# Altium schematic symbol library parts.SCHLIB: 122 symbols (part 2 of 2)
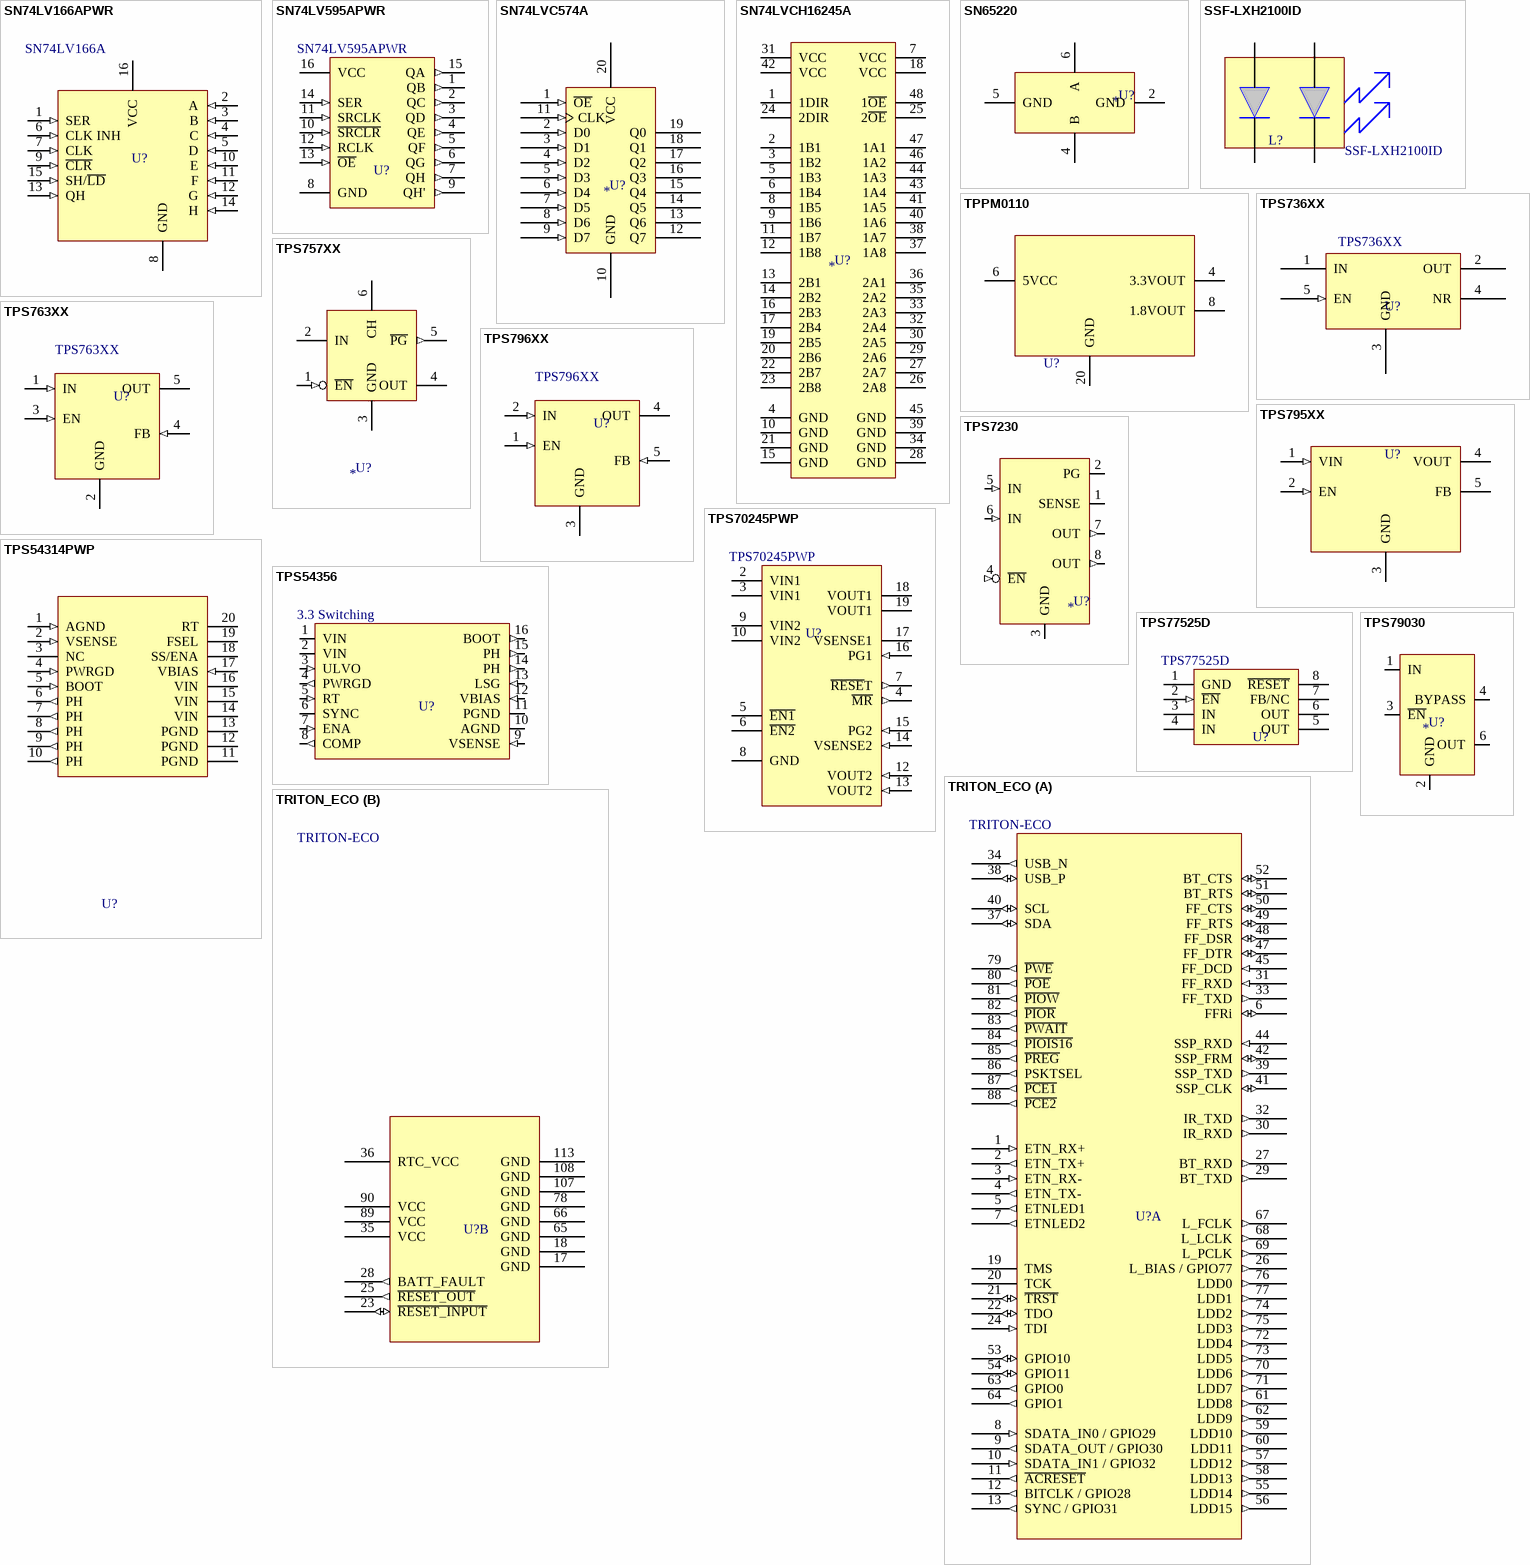
[diagram p11: symbols SN74LV166APWR to TRITON_ECO]

## TPS54356
designator U?, comment 3.3 Switching
TI 3A 3.3V out switching Regulator
footprint PWP PowerPad - 16
pins: 1 VIN (power), 2 VIN (power), 3 ULVO (in), 4 PWRGD (out), 5 RT (in), 6 SYNC (io), 7 ENA (in), 8 COMP (out), 9 VSENSE (in), 10 AGND (power), 11 PGND (power), 12 VBIAS (in), 13 LSG (in), 14 PH (out), 15 PH (out), 16 BOOT (out), P0 PAD (power) hidden to GND, P0 PAD (power) hidden to GND, P1 PAD (power) hidden to GND, P1 PAD (power) hidden to GND, P2 PAD (power) hidden to GND, P2 PAD (power) hidden to GND, P3 PAD (power) hidden to GND, P3 PAD (power) hidden to GND, P4 PAD (power) hidden to GND, P4 PAD (power) hidden to GND, P5 PAD (power) hidden to GND, P5 PAD (power) hidden to GND, P6 PAD (power) hidden to GND, P6 PAD (power) hidden to GND, P7 PAD (power) hidden to GND, P7 PAD (power) hidden to GND, P8 PAD (power) hidden to GND, P8 PAD (power) hidden to GND, P9 PAD (power) hidden to GND, P9 PAD (power) hidden to GND, P10 PAD (power) hidden to GND, P10 PAD (power) hidden to GND, P11 PAD (power) hidden to GND, P11 PAD (power) hidden to GND, P12 PAD (power) hidden to GND, P12 PAD (power) hidden to GND, P13 PAD (power) hidden to GND, P13 PAD (power) hidden to GND, P14 PAD (power) hidden to GND, P14 PAD (power) hidden to GND, P15 PAD (power) hidden to GND, P15 PAD (power) hidden to GND, P16 PAD (power) hidden to GND, P16 PAD (power) hidden to GND, P17 PAD (power) hidden to GND, P17 PAD (power) hidden to GND, P18 PAD (power) hidden to GND

## TPS70245PWP
designator U?
TI dual-output low dropout voltage regulators; Vendor: Texas Instruments
footprint PWP PowerPad -20
pins: 2 VIN1 (power), 3 VIN1 (power), 4 ~{MR} (out), 5 ~{EN1} (power), 6 ~{EN2} (power), 7 ~{RESE}T (out), 8 GND (power), 9 VIN2 (power), 10 VIN2 (power), 12 VOUT2 (in), 13 VOUT2 (in), 14 VSENSE2 (in), 15 PG2 (in), 16 PG1 (in), 17 VSENSE1 (power), 18 VOUT1 (power), 19 VOUT1 (power), P1 (power) hidden to GND, P2 (power) hidden to GND, P3 (power) hidden to GND, P4 (power) hidden to GND, P5 (power) hidden to GND, P6 (power) hidden to GND, P7 (power) hidden to GND, P8 (power) hidden to GND, P9 (power) hidden to GND, P10 (power) hidden to GND, P11 (power) hidden to GND, P12 (power) hidden to GND, P13 (power) hidden to GND, P14 (power) hidden to GND, P15 (power) hidden to GND, P16 (power) hidden to GND, P17 (power) hidden to GND

## TPS77525D
designator U?
Fast-transient-response 500 mA low-dropout voltage regulator; Vendor: Texas Instruments
footprint SO-G8
pins: 1 GND (power), 2 ~{EN} (in), 3 IN (power), 4 IN (power), 5 OUT (power), 6 OUT (power), 7 FB/NC, 8 ~{RESET}

## TPS79030
designator U?
TI low-dropout 3V regulator
footprint SO-6
pins: 1 IN (power), 2 GND (io), 3 ~{EN} (io), 4 BYPASS (io), 6 OUT (power)

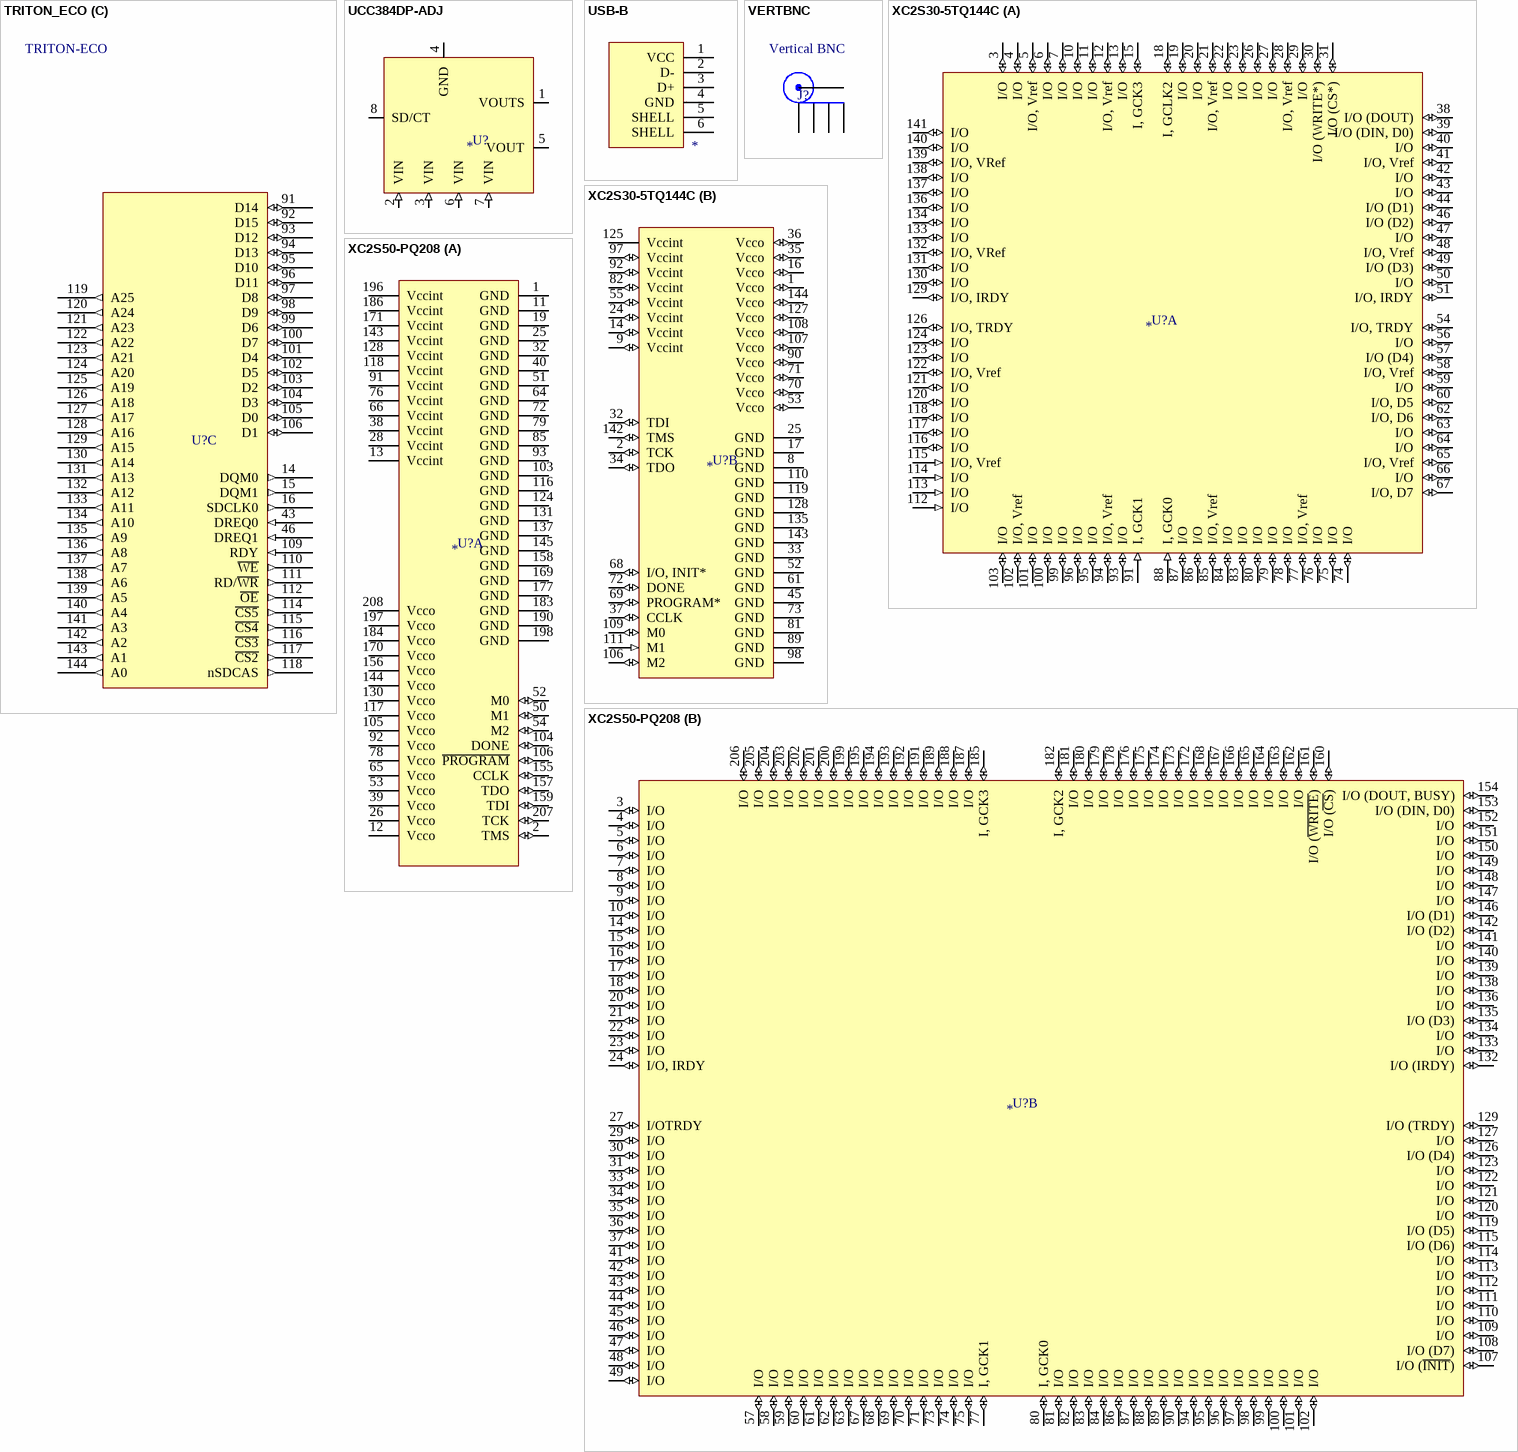
[diagram p8: symbols TRITON_ECO to XC2S50-PQ208]

## TRITON_ECO
designator U?, comment TRITON-ECO
Triton-ECO 400 MHz XScale DIMM
footprint 144-PIN SMT SODIMM (144-PIN SODIMM  socket, MOLEX 54142-1440)
part A pins: 1 ETN_RX+ (in), 2 ETN_TX+ (out), 3 ETN_RX- (in), 4 ETN_TX- (out), 5 ETNLED1 (out), 6 FFRi (io), 7 ETNLED2 (out), 8 SDATA_IN0 / GPIO29 (in), 9 SDATA_OUT / GPIO30 (out), 10 SDATA_IN1 / GPIO32 (in), 11 ~{ACRESET} (out), 12 BITCLK / GPIO28 (out), 13 SYNC / GPIO31 (out), 19 TMS (power), 20 TCK (power), 21 ~{TRST} (io), 22 TDO (io), 24 TDI (in), 26 L_BIAS / GPIO77 (out), 27 BT_RXD (out), 29 BT_TXD (out), 30 IR_RXD (out), 31 FF_RXD (in), 32 IR_TXD (out), 33 FF_TXD (out), 34 USB_N (out), 37 SDA (io), 38 USB_P (io), 39 SSP_TXD (out), 40 SCL (io), 41 SSP_CLK (io), 42 SSP_FRM (io), 44 SSP_RXD (in), 45 FF_DCD (in), 47 FF_DTR (io), 48 FF_DSR (io), 49 FF_RTS (io), 50 FF_CTS (io), 51 BT_RTS (io), 52 BT_CTS (io), 53 GPIO10 (io), 54 GPIO11 (io), 55 LDD14 (out), 56 LDD15 (out), 57 LDD12 (out), 58 LDD13 (out), 59 LDD10 (out), 60 LDD11 (out), 61 LDD8 (out), 62 LDD9 (out), 63 GPIO0 (out), 64 GPIO1 (out), 67 L_FCLK (out), 68 L_LCLK (out), 69 L_PCLK (out), 70 LDD6 (out), 71 LDD7 (out), 72 LDD4 (out), 73 LDD5 (out), 74 LDD2 (out), 75 LDD3 (out), 76 LDD0 (out), 77 LDD1 (out), 79 ~{PWE} (out), 80 ~{POE} (out), 81 ~{PIOW} (out), 82 ~{PIOR} (out), 83 ~{PWAIT} (out), 84 ~{PIOIS16} (out), 85 ~{PREG} (out), 86 PSKTSEL (out), 87 ~{PCE1} (out), 88 ~{PCE2} (out)
part B pins: 17 GND (power), 18 GND (power), 23 ~{RESET_INPUT} (io), 25 ~{RESET_OUT} (out), 28 BATT_FAULT (out), 35 VCC (power), 36 RTC_VCC (power), 65 GND (power), 66 GND (power), 78 GND (power), 89 VCC (power), 90 VCC (power), 107 GND (power), 108 GND (power), 113 GND (power)
part C pins: 14 DQM0 (out), 15 DQM1 (out), 16 SDCLK0 (out), 43 DREQ0 (in), 46 DREQ1 (in), 91 D14 (io), 92 D15 (io), 93 D12 (io), 94 D13 (io), 95 D10 (io), 96 D11 (io), 97 D8 (io), 98 D9 (io), 99 D6 (io), 100 D7 (io), 101 D4 (io), 102 D5 (io), 103 D2 (io), 104 D3 (io), 105 D0 (io), 106 D1 (io), 109 RDY (in), 110 ~{WE} (out), 111 RD/~{WR} (out), 112 ~{OE} (out), 114 ~{CS5} (out), 115 ~{CS4} (out), 116 ~{CS3} (out), 117 ~{CS2} (out), 118 nSDCAS (out), 119 A25 (out), 120 A24 (out), 121 A23 (out), 122 A22 (out), 123 A21 (out), 124 A20 (out), 125 A19 (out), 126 A18 (out), 127 A17 (out), 128 A16 (out), 129 A15 (out), 130 A14 (out), 131 A13 (out), 132 A12 (out), 133 A11 (out), 134 A10 (out), 135 A9 (out), 136 A8 (out), 137 A7 (out), 138 A6 (out), 139 A5 (out), 140 A4 (out), 141 A3 (out), 142 A2 (out), 143 A1 (out), 144 A0 (out)

## UCC384DP-ADJ
designator U?
TI negative adjustable LDO
footprint SO-8
pins: 1 VOUTS (io), 2 VIN (in), 3 VIN (in), 4 GND (power), 5 VOUT (power), 6 VIN (in), 7 VIN (in), 8 SD/CT (io)

## USB-B
designator ?
pins: 1 VCC, 2 D-, 3 D+, 4 GND, 5 SHELL, 6 SHELL

## VERTBNC
designator J?, comment Vertical BNC
Vertical BNC with correct grounding pin behavior
footprint Vertical BNC 227699-1 (AMP vertical BNC 227699-1)
pins: 1 PIN, 2 SHLD, 3 SHLD, 4 SHLD, 5 SHLD

## XC2S30-5TQ144C
designator U?
Xilinx Spartan-II 2.5 V FPGA TQ144
footprint SQFP20X20-144(N)
part A pins: 3 I/O (io), 4 I/O (io), 5 I/O, Vref (io), 6 I/O (io), 7 I/O (io), 10 I/O (io), 11 I/O (io), 12 I/O, Vref (io), 13 I/O (io), 15 I, GCK3 (io), 18 I, GCLK2 (io), 19 I/O (io), 20 I/O (io), 21 I/O, Vref (io), 22 I/O (io), 23 I/O (io), 26 I/O (io), 27 I/O (io), 28 I/O, Vref (io), 29 I/O (io), 30 I/O (WRITE*) (io), 31 I/O (CS*) (io), 38 I/O (DOUT) (io), 39 I/O (DIN, D0) (io), 40 I/O (io), 41 I/O, Vref (io), 42 I/O (io), 43 I/O (io), 44 I/O (D1) (io), 46 I/O (D2) (io), 47 I/O (io), 48 I/O, Vref (io), 49 I/O (D3) (io), 50 I/O (io), 51 I/O, IRDY (io), 54 I/O, TRDY (io), 56 I/O (io), 57 I/O (D4) (io), 58 I/O, Vref (io), 59 I/O (io), 60 I/O, D5 (io), 62 I/O, D6 (io), 63 I/O (io), 64 I/O (io), 65 I/O, Vref (io), 66 I/O (io), 67 I/O, D7 (io), 74 I/O (io), 75 I/O (io), 76 I/O (io), 77 I/O, Vref (io), 78 I/O (io), 79 I/O (io), 80 I/O (io), 83 I/O (io), 84 I/O (io), 85 I/O, Vref (io), 86 I/O (io), 87 I/O (io), 88 I, GCK0 (in), 91 I, GCK1 (in), 93 I/O (io), 94 I/O, Vref (io), 95 I/O (io), 96 I/O (io), 99 I/O (io), 100 I/O (io), 101 I/O (io), 102 I/O, Vref (io), 103 I/O (io), 112 I/O (in), 113 I/O (in), 114 I/O (in), 115 I/O, Vref (in), 116 I/O (io), 117 I/O (io), 118 I/O (io), 120 I/O (io), 121 I/O (io), 122 I/O, Vref (io), 123 I/O (io), 124 I/O (io), 126 I/O, TRDY (io), 129 I/O, IRDY (io), 130 I/O (io), 131 I/O (io), 132 I/O, VRef (io), 133 I/O (io), 134 I/O (io), 136 I/O (io), 137 I/O (io), 138 I/O (io), 139 I/O, VRef (io), 140 I/O (io), 141 I/O (io)
part B pins: 1 Vcco (io), 2 TCK (io), 8 GND (power), 9 Vccint (io), 14 Vccint (io), 16 Vcco (io), 17 GND (power), 24 Vccint (io), 25 GND (power), 32 TDI (io), 33 GND (power), 34 TDO (io), 35 Vcco (io), 36 Vcco (io), 37 CCLK (io), 45 GND (power), 52 GND (power), 53 Vcco (io), 55 Vccint (io), 61 GND (power), 68 I/O, INIT* (io), 69 PROGRAM* (io), 70 Vcco (io), 71 Vcco (io), 72 DONE (io), 73 GND (power), 81 GND (power), 82 Vccint (io), 89 GND (power), 90 Vcco (io), 92 Vccint (io), 97 Vccint (io), 98 GND (power), 106 M2 (io), 107 Vcco (io), 108 Vcco (io), 109 M0 (io), 110 GND (power), 111 M1 (in), 119 GND (power), 125 Vccint (power), 127 Vcco (io), 128 GND (power), 135 GND (power), 142 TMS (io), 143 GND (power), 144 Vcco (io)

## XC2S50-PQ208
designator U?
Xilinx Spartan-II 50 208-pin FPGA
footprint F-QFP28X28-G208/Z32N
part A pins: 1 GND (power), 2 TMS (io), 11 GND (power), 12 Vcco (power), 13 Vccint (power), 19 GND (power), 25 GND (power), 26 Vcco (power), 28 Vccint (power), 32 GND (power), 38 Vccint (power), 39 Vcco (power), 40 GND (power), 50 M1 (io), 51 GND (power), 52 M0 (io), 53 Vcco (power), 54 M2 (io), 64 GND (power), 65 Vcco (power), 66 Vccint (power), 72 GND (power), 76 Vccint (power), 78 Vcco (power), 79 GND (power), 85 GND (power), 91 Vccint (power), 92 Vcco (power), 93 GND (power), 103 GND (power), 104 DONE (io), 105 Vcco (power), 106 ~{PROGRAM} (io), 116 GND (power), 117 Vcco (power), 118 Vccint (power), 124 GND (power), 128 Vccint (power), 130 Vcco (power), 131 GND (power), 137 GND (power), 143 Vccint (power), 144 Vcco (power), 145 GND (power), 155 CCLK (io), 156 Vcco (power), 157 TDO (io), 158 GND (power), 159 TDI (io), 169 GND (power), 170 Vcco (power), 171 Vccint (power), 177 GND (power), 183 GND (power), 184 Vcco (power), 186 Vccint (power), 190 GND (power), 196 Vccint (power), 197 Vcco (power), 198 GND (power), 207 TCK (io), 208 Vcco (power)
part B pins: 3 I/O (io), 4 I/O (io), 5 I/O (io), 6 I/O (io), 7 I/O (io), 8 I/O (io), 9 I/O (io), 10 I/O (io), 14 I/O (io), 15 I/O (io), 16 I/O (io), 17 I/O (io), 18 I/O (io), 20 I/O (io), 21 I/O (io), 22 I/O (io), 23 I/O (io), 24 I/O, IRDY (io), 27 I/OTRDY (io), 29 I/O (io), 30 I/O (io), 31 I/O (io), 33 I/O (io), 34 I/O (io), 35 I/O (io), 36 I/O (io), 37 I/O (io), 41 I/O (io), 42 I/O (io), 43 I/O (io), 44 I/O (io), 45 I/O (io), 46 I/O (io), 47 I/O (io), 48 I/O (io), 49 I/O (io), 57 I/O (io), 58 I/O (io), 59 I/O (io), 60 I/O (io), 61 I/O (io), 62 I/O (io), 63 I/O (io), 67 I/O (io), 68 I/O (io), 69 I/O (io), 70 I/O (io), 71 I/O (io), 73 I/O (io), 74 I/O (io), 75 I/O (io), 77 I, GCK1 (io), 80 I, GCK0 (io), 81 I/O (io), 82 I/O (io), 83 I/O (io), 84 I/O (io), 86 I/O (io), 87 I/O (io), 88 I/O (io), 89 I/O (io), 90 I/O (io), 94 I/O (io), 95 I/O (io), 96 I/O (io), 97 I/O (io), 98 I/O (io), 99 I/O (io), 100 I/O (io), 101 I/O (io), 102 I/O (io), 107 I/O (~{INIT}) (io), 108 I/O (D7) (io), 109 I/O (io), 110 I/O (io), 111 I/O (io), 112 I/O (io), 113 I/O (io), 114 I/O (io), 115 I/O (D6) (io), 119 I/O (D5) (io), 120 I/O (io), 121 I/O (io), 122 I/O (io), 123 I/O (io), 126 I/O (D4) (io), 127 I/O (io), 129 I/O (TRDY) (io), 132 I/O (IRDY) (io), 133 I/O (io), 134 I/O (io), 135 I/O (D3) (io), 136 I/O (io), 138 I/O (io), 139 I/O (io), 140 I/O (io), 141 I/O (io), 142 I/O (D2) (io), 146 I/O (D1) (io), 147 I/O (io), 148 I/O (io), 149 I/O (io), 150 I/O (io), 151 I/O (io), 152 I/O (io), 153 I/O (DIN, D0) (io), 154 I/O (DOUT, BUSY) (io), 160 I/O (~{CS}) (io), 161 I/O (~{WRITE}) (io), 162 I/O (io), 163 I/O (io), 164 I/O (io), 165 I/O (io), 166 I/O (io), 167 I/O (io), 168 I/O (io), 172 I/O (io), 173 I/O (io), 174 I/O (io), 175 I/O (io), 176 I/O (io), 178 I/O (io), 179 I/O (io), 180 I/O (io), 181 I/O (io), 182 I, GCK2 (io), 185 I, GCK3 (io), 187 I/O (io), 188 I/O (io), 189 I/O (io), 191 I/O (io), 192 I/O (io), 193 I/O (io), 194 I/O (io), 195 I/O (io), 199 I/O (io), 200 I/O (io), 201 I/O (io), 202 I/O (io), 203 I/O (io), 204 I/O (io), 205 I/O (io), 206 I/O (io)

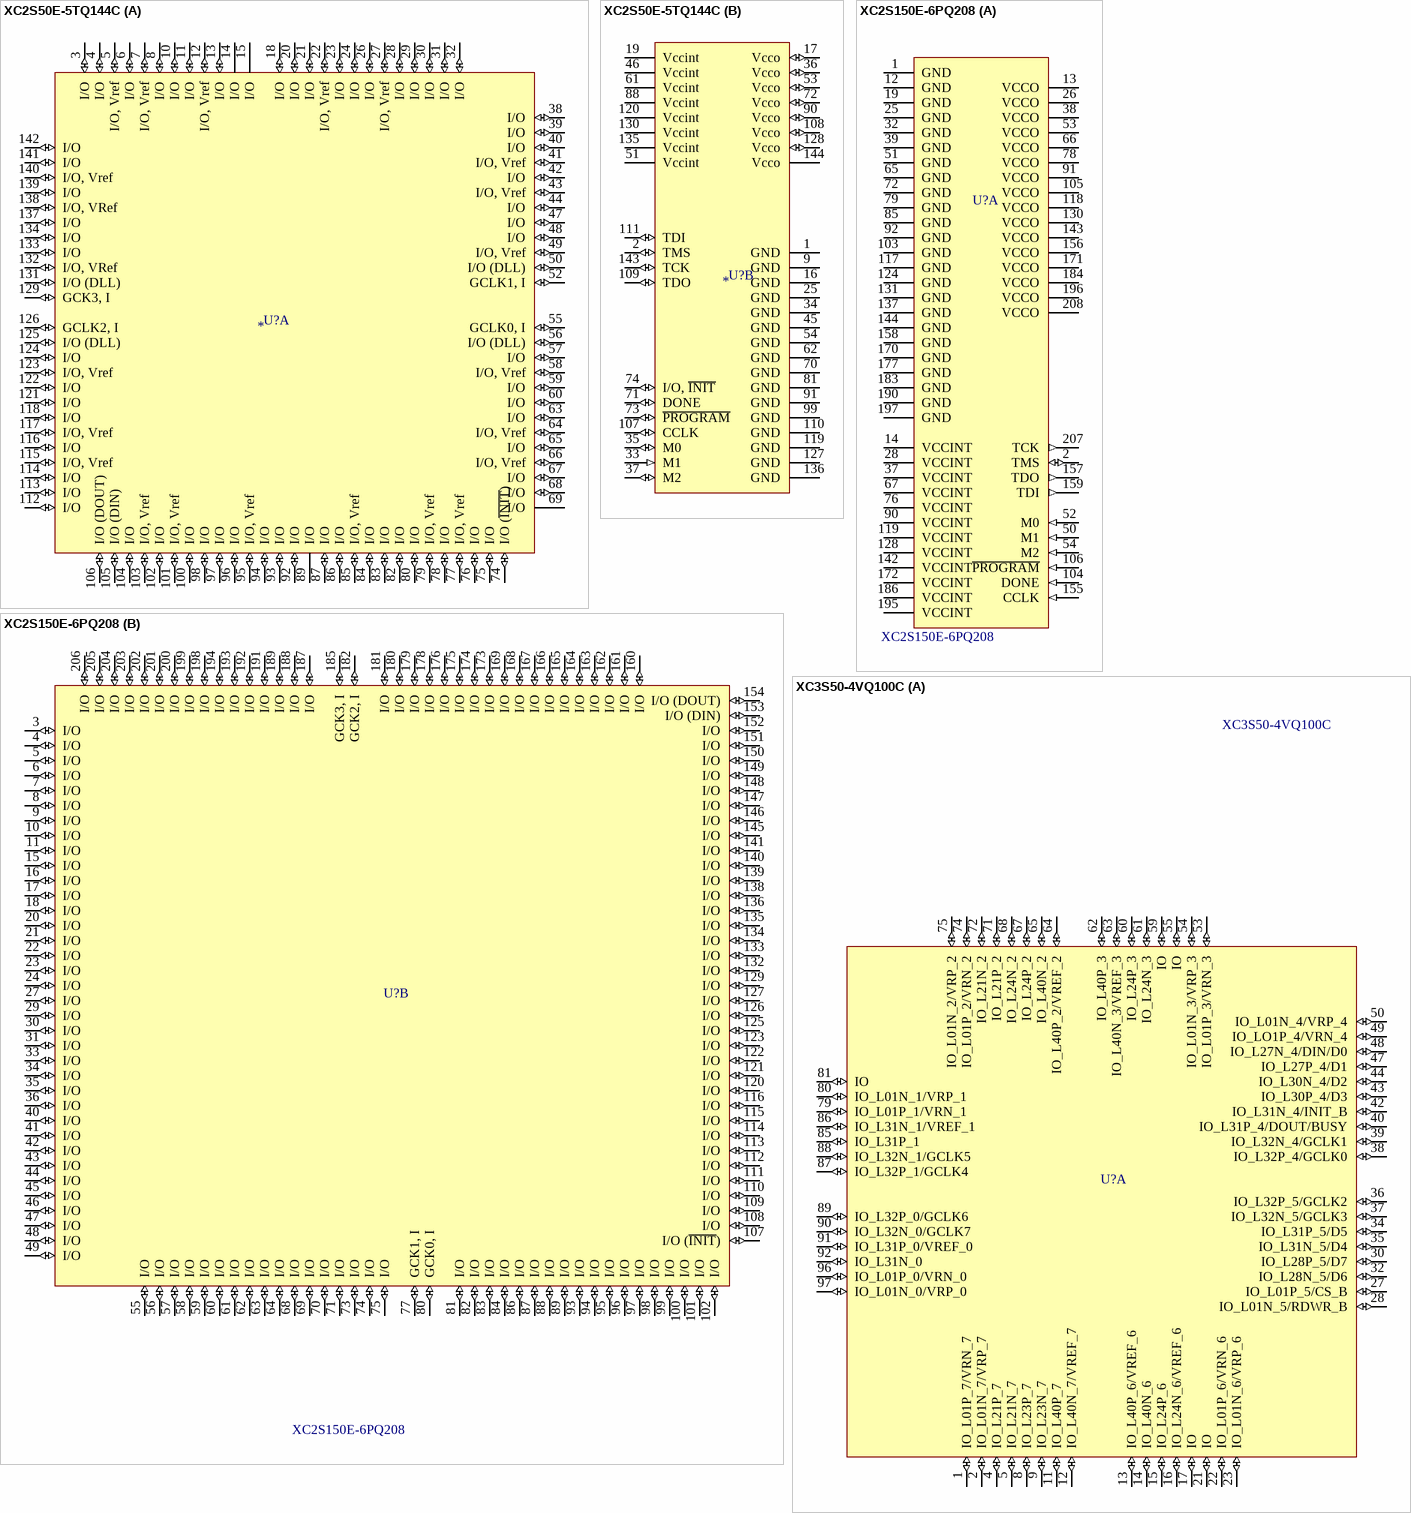
[diagram p9: symbols XC2S50E-5TQ144C to XC3S50-4VQ100C]

## XC2S50E-5TQ144C
designator U?
Xilinx Spartan-IIE 1.8 V FPGA TQ144
footprint SQFP20X20-144(N)
part A pins: 3 I/O (io), 4 I/O (io), 5 I/O, Vref (io), 6 I/O (io), 7 I/O, Vref (io), 8 I/O (io), 10 I/O (io), 11 I/O (io), 12 I/O, Vref (io), 13 I/O (io), 14 I/O (power), 15 I/O (power), 18 I/O (io), 20 I/O (io), 21 I/O (io), 22 I/O, Vref (io), 23 I/O (io), 24 I/O (io), 26 I/O (io), 27 I/O, Vref (io), 28 I/O (io), 29 I/O (io), 30 I/O (io), 31 I/O (io), 32 I/O (io), 38 I/O (io), 39 I/O (io), 40 I/O (io), 41 I/O, Vref (io), 42 I/O (io), 43 I/O, Vref (io), 44 I/O (io), 47 I/O (io), 48 I/O (io), 49 I/O, Vref (io), 50 I/O (DLL) (io), 52 GCLK1, I (io), 55 GCLK0, I (io), 56 I/O (DLL) (io), 57 I/O (io), 58 I/O, Vref (io), 59 I/O (io), 60 I/O (io), 63 I/O (io), 64 I/O, Vref (io), 65 I/O (io), 66 I/O, Vref (io), 67 I/O (io), 68 I/O (io), 69 I/O (power), 74 I/O (~{INIT}) (io), 75 I/O (io), 76 I/O (io), 77 I/O, Vref (io), 78 I/O (io), 79 I/O, Vref (io), 80 I/O (io), 82 I/O (io), 83 I/O (io), 84 I/O (io), 85 I/O, Vref (io), 86 I/O (io), 87 I/O (io), 89 I/O (power), 92 I/O (io), 93 I/O (io), 94 I/O (io), 95 I/O, Vref (io), 96 I/O (io), 97 I/O (io), 98 I/O (io), 100 I/O (io), 101 I/O, Vref (io), 102 I/O (io), 103 I/O, Vref (io), 104 I/O (io), 105 I/O (DIN) (io), 106 I/O (DOUT) (io), 112 I/O (io), 113 I/O (io), 114 I/O (io), 115 I/O, Vref (io), 116 I/O (io), 117 I/O, Vref (io), 118 I/O (io), 121 I/O (io), 122 I/O (io), 123 I/O, Vref (io), 124 I/O (io), 125 I/O (DLL) (io), 126 GCLK2, I (io), 129 GCK3, I (io), 131 I/O (DLL) (io), 132 I/O, VRef (io), 133 I/O (io), 134 I/O (io), 137 I/O (io), 138 I/O, VRef (io), 139 I/O (io), 140 I/O, Vref (io), 141 I/O (io), 142 I/O (io)
part B pins: 1 GND (power), 2 TMS (io), 9 GND (power), 16 GND (power), 17 Vcco (io), 19 Vccint (power), 25 GND (power), 33 M1 (in), 34 GND (power), 35 M0 (io), 36 Vcco (io), 37 M2 (io), 45 GND (power), 46 Vccint (power), 51 Vccint (power), 53 Vcco (io), 54 GND (power), 61 Vccint (power), 62 GND (power), 70 GND (power), 71 DONE (io), 72 Vcco (io), 73 ~{PROGRAM} (io), 74 I/O, ~{INIT} (io), 81 GND (power), 88 Vccint (power), 90 Vcco (io), 91 GND (power), 99 GND (power), 107 CCLK (io), 108 Vcco (io), 109 TDO (io), 110 GND (power), 111 TDI (io), 119 GND (power), 120 Vccint (power), 127 GND (power), 128 Vcco (io), 130 Vccint (power), 135 Vccint (power), 136 GND (power), 143 TCK (io), 144 Vcco (power)

## XC2S150E-6PQ208
designator U?  Part: XC2S150E-6PQ208
Xilinx Spartan-IIE 1.8V FPGA in 208-pin PQFP package
footprint F-QFP28X28-G208/Z32N
part A pins: 1 GND (power), 2 TMS (io), 12 GND (power), 13 VCCO (power), 14 VCCINT (power), 19 GND (power), 25 GND (power), 26 VCCO (power), 28 VCCINT (power), 32 GND (power), 37 VCCINT (power), 38 VCCO (power), 39 GND (power), 50 M1 (in), 51 GND (power), 52 M0 (in), 53 VCCO (power), 54 M2 (in), 65 GND (power), 66 VCCO (power), 67 VCCINT (power), 72 GND (power), 76 VCCINT (power), 78 VCCO (power), 79 GND (power), 85 GND (power), 90 VCCINT (power), 91 VCCO (power), 92 GND (power), 103 GND (power), 104 DONE (in), 105 VCCO (power), 106 ~{PROGRAM} (in), 117 GND (power), 118 VCCO (power), 119 VCCINT (power), 124 GND (power), 128 VCCINT (power), 130 VCCO (power), 131 GND (power), 137 GND (power), 142 VCCINT (power), 143 VCCO (power), 144 GND (power), 155 CCLK (in), 156 VCCO (power), 157 TDO (out), 158 GND (power), 159 TDI (out), 170 GND (power), 171 VCCO (power), 172 VCCINT (power), 177 GND (power), 183 GND (power), 184 VCCO (power), 186 VCCINT (power), 190 GND (power), 195 VCCINT (power), 196 VCCO (power), 197 GND (power), 207 TCK (out), 208 VCCO (power)
part B pins: 3 I/O (io), 4 I/O (io), 5 I/O (io), 6 I/O (io), 7 I/O (io), 8 I/O (io), 9 I/O (io), 10 I/O (io), 11 I/O (io), 15 I/O (io), 16 I/O (io), 17 I/O (io), 18 I/O (io), 20 I/O (io), 21 I/O (io), 22 I/O (io), 23 I/O (io), 24 I/O (io), 27 I/O (io), 29 I/O (io), 30 I/O (io), 31 I/O (io), 33 I/O (io), 34 I/O (io), 35 I/O (io), 36 I/O (io), 40 I/O (io), 41 I/O (io), 42 I/O (io), 43 I/O (io), 44 I/O (io), 45 I/O (io), 46 I/O (io), 47 I/O (io), 48 I/O (io), 49 I/O (io), 55 I/O (io), 56 I/O (io), 57 I/O (io), 58 I/O (io), 59 I/O (io), 60 I/O (io), 61 I/O (io), 62 I/O (io), 63 I/O (io), 64 I/O (io), 68 I/O (io), 69 I/O (io), 70 I/O (io), 71 I/O (io), 73 I/O (io), 74 I/O (io), 75 I/O (io), 77 GCK1, I (io), 80 GCK0, I (io), 81 I/O (io), 82 I/O (io), 83 I/O (io), 84 I/O (io), 86 I/O (io), 87 I/O (io), 88 I/O (io), 89 I/O (io), 93 I/O (io), 94 I/O (io), 95 I/O (io), 96 I/O (io), 97 I/O (io), 98 I/O (io), 99 I/O (io), 100 I/O (io), 101 I/O (io), 102 I/O (io), 107 I/O (~{INIT}) (io), 108 I/O (io), 109 I/O (io), 110 I/O (io), 111 I/O (io), 112 I/O (io), 113 I/O (io), 114 I/O (io), 115 I/O (io), 116 I/O (io), 120 I/O (io), 121 I/O (io), 122 I/O (io), 123 I/O (io), 125 I/O (io), 126 I/O (io), 127 I/O (io), 129 I/O (io), 132 I/O (io), 133 I/O (io), 134 I/O (io), 135 I/O (io), 136 I/O (io), 138 I/O (io), 139 I/O (io), 140 I/O (io), 141 I/O (io), 145 I/O (io), 146 I/O (io), 147 I/O (io), 148 I/O (io), 149 I/O (io), 150 I/O (io), 151 I/O (io), 152 I/O (io), 153 I/O (DIN) (io), 154 I/O (DOUT) (io), 160 I/O (io), 161 I/O (io), 162 I/O (io), 163 I/O (io), 164 I/O (io), 165 I/O (io), 166 I/O (io), 167 I/O (io), 168 I/O (io), 169 I/O (io), 173 I/O (io), 174 I/O (io), 175 I/O (io), 176 I/O (io), 178 I/O (io), 179 I/O (io), 180 I/O (io), 181 I/O (io), 182 GCK2, I (io), 185 GCK3, I (io), 187 I/O (io), 188 I/O (io), 189 I/O (io), 191 I/O (io), 192 I/O (io), 193 I/O (io), 194 I/O (io), 198 I/O (io), 199 I/O (io), 200 I/O (io), 201 I/O (io), 202 I/O (io), 203 I/O (io), 204 I/O (io), 205 I/O (io), 206 I/O (io)

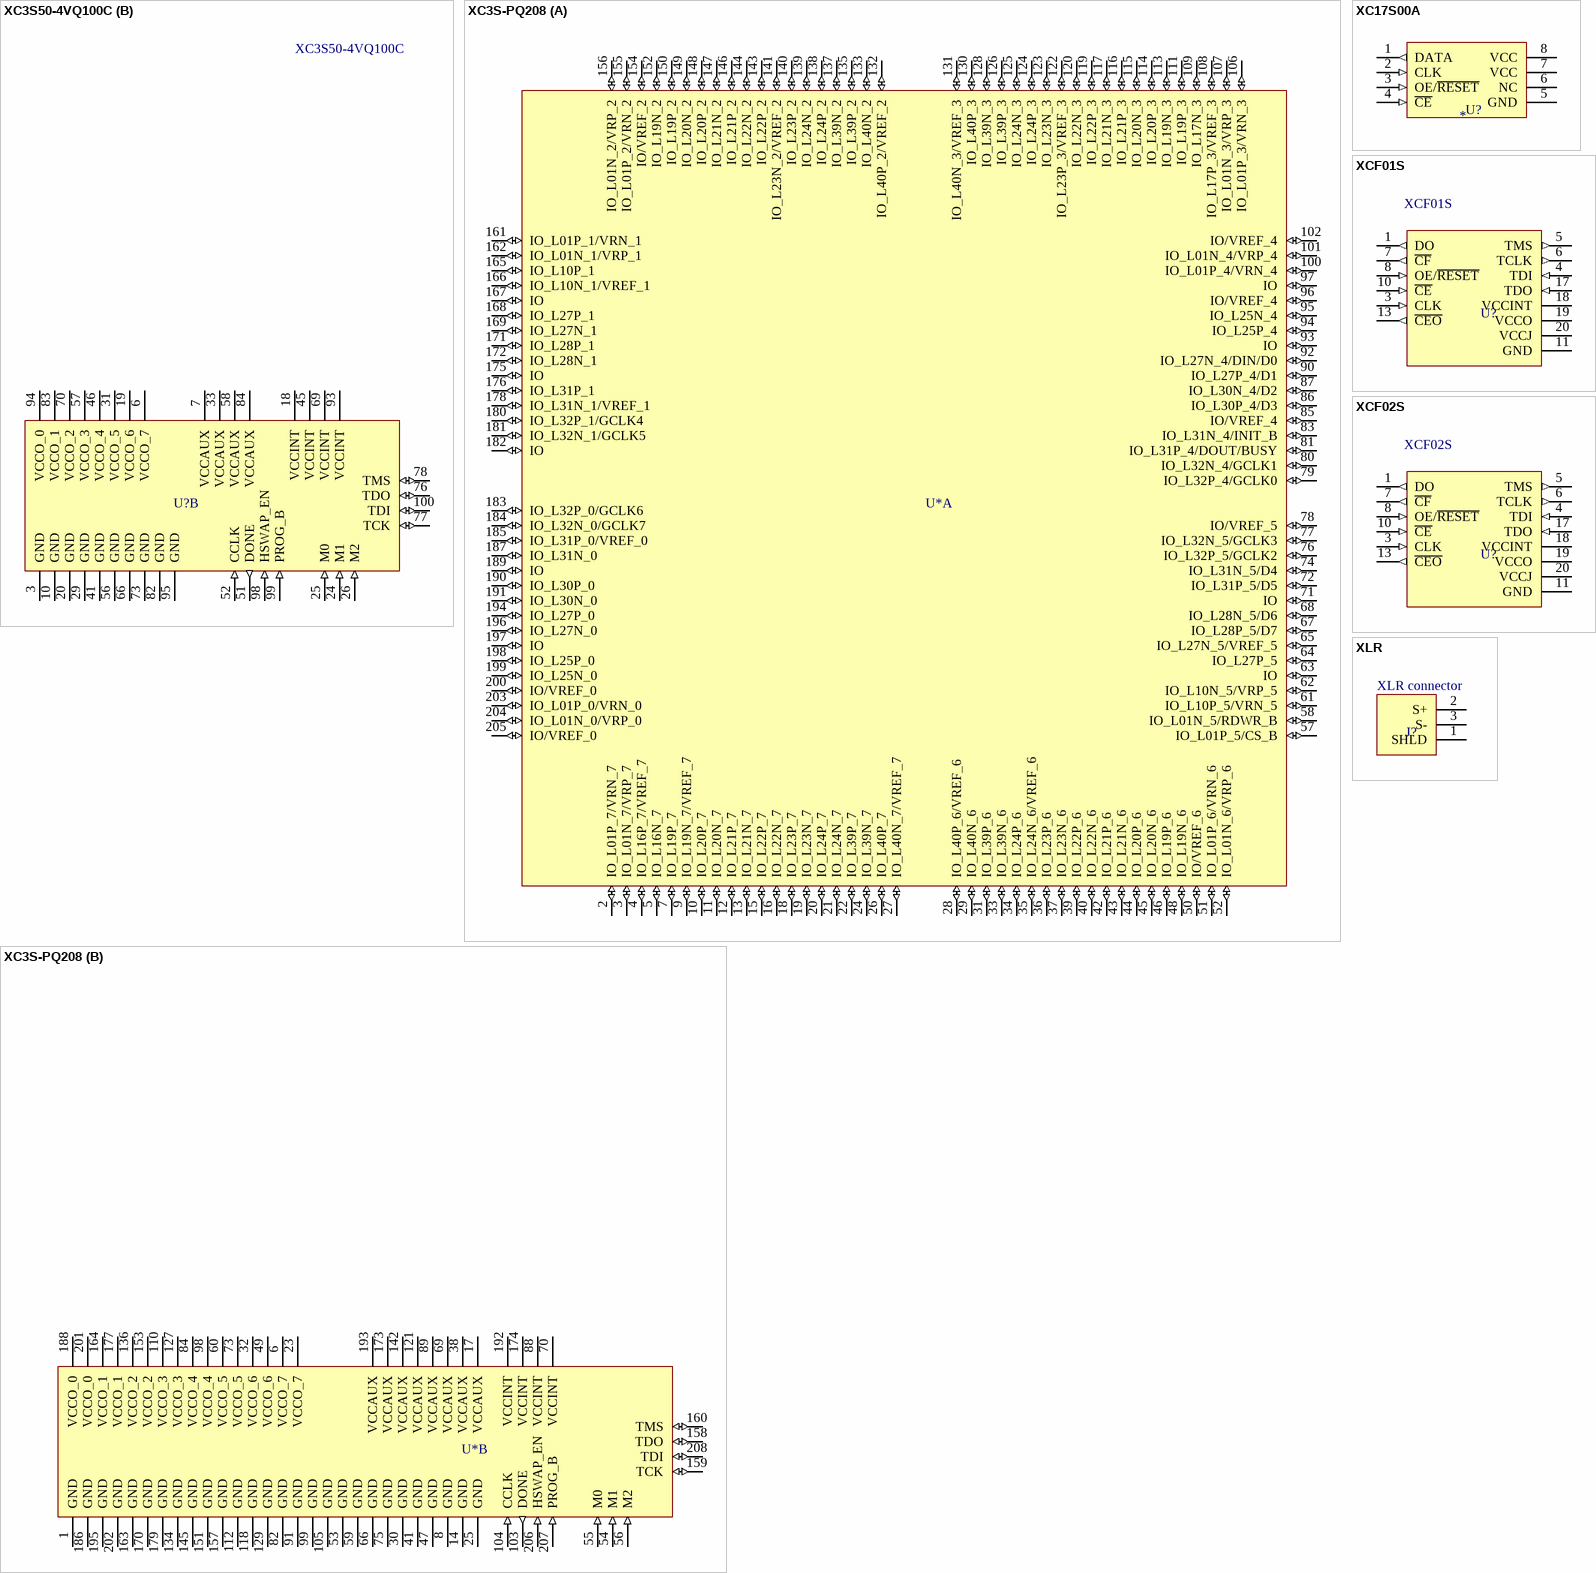
[diagram p10: symbols XC3S50-4VQ100C to XLR]

## XC3S50-4VQ100C
designator U?
Xilinx Spartan-3 VQ100; Vendor: Xilinx
footprint F-QFP14X14-G100/N
part A pins: 1 IO_L01P_7/VRN_7 (io), 2 IO_L01N_7/VRP_7 (io), 4 IO_L21P_7 (io), 5 IO_L21N_7 (io), 8 IO_L23P_7 (io), 9 IO_L23N_7 (io), 11 IO_L40P_7 (io), 12 IO_L40N_7/VREF_7 (io), 13 IO_L40P_6/VREF_6 (io), 14 IO_L40N_6 (io), 15 IO_L24P_6 (io), 16 IO_L24N_6/VREF_6 (io), 17 IO (io), 21 IO (io), 22 IO_L01P_6/VRN_6 (io), 23 IO_L01N_6/VRP_6 (io), 27 IO_L01P_5/CS_B (io), 28 IO_L01N_5/RDWR_B (io), 30 IO_L28P_5/D7 (io), 32 IO_L28N_5/D6 (io), 34 IO_L31P_5/D5 (io), 35 IO_L31N_5/D4 (io), 36 IO_L32P_5/GCLK2 (io), 37 IO_L32N_5/GCLK3 (io), 38 IO_L32P_4/GCLK0 (io), 39 IO_L32N_4/GCLK1 (io), 40 IO_L31P_4/DOUT/BUSY (io), 42 IO_L31N_4/INIT_B (io), 43 IO_L30P_4/D3 (io), 44 IO_L30N_4/D2 (io), 47 IO_L27P_4/D1 (io), 48 IO_L27N_4/DIN/D0 (io), 49 IO_LO1P_4/VRN_4 (io), 50 IO_L01N_4/VRP_4 (io), 53 IO_L01P_3/VRN_3 (io), 54 IO_L01N_3/VRP_3 (io), 55 IO (io), 59 IO (io), 60 IO_L24P_3 (io), 61 IO_L24N_3 (io), 62 IO_L40P_3 (io), 63 IO_L40N_3/VREF_3 (io), 64 IO_L40P_2/VREF_2 (io), 65 IO_L40N_2 (io), 67 IO_L24P_2 (io), 68 IO_L24N_2 (io), 71 IO_L21P_2 (io), 72 IO_L21N_2 (io), 74 IO_L01P_2/VRN_2 (io), 75 IO_L01N_2/VRP_2 (io), 79 IO_L01P_1/VRN_1 (io), 80 IO_L01N_1/VRP_1 (io), 81 IO (io), 85 IO_L31P_1 (io), 86 IO_L31N_1/VREF_1 (io), 87 IO_L32P_1/GCLK4 (io), 88 IO_L32N_1/GCLK5 (io), 89 IO_L32P_0/GCLK6 (io), 90 IO_L32N_0/GCLK7 (io), 91 IO_L31P_0/VREF_0 (io), 92 IO_L31N_0 (io), 96 IO_L01P_0/VRN_0 (io), 97 IO_L01N_0/VRP_0 (io)
part B pins: 3 GND (power), 6 VCCO_7 (power), 7 VCCAUX (power), 10 GND (power), 18 VCCINT (power), 19 VCCO_6 (power), 20 GND (power), 24 M1 (in), 25 M0 (in), 26 M2 (in), 29 GND (power), 31 VCCO_5 (power), 33 VCCAUX (power), 41 GND (power), 45 VCCINT (power), 46 VCCO_4 (power), 51 DONE (out), 52 CCLK (in), 56 GND (power), 57 VCCO_3 (power), 58 VCCAUX (power), 66 GND (power), 69 VCCINT (power), 70 VCCO_2 (power), 73 GND (power), 76 TDO (io), 77 TCK (io), 78 TMS (io), 82 GND (power), 83 VCCO_1 (power), 84 VCCAUX (power), 93 VCCINT (power), 94 VCCO_0 (power), 95 GND (power), 98 HSWAP_EN (in), 99 PROG_B (in), 100 TDI (io)

## XC3S-PQ208
designator U*
Xilinx Spartan-3 PQ208
footprint F-QFP28X28-G208/Z32N
part A pins: 2 IO_L01P_7/VRN_7 (io), 3 IO_L01N_7/VRP_7 (io), 4 IO_L16P_7/VREF_7 (io), 5 IO_L16N_7 (io), 7 IO_L19P_7 (io), 9 IO_L19N_7/VREF_7 (io), 10 IO_L20P_7 (io), 11 IO_L20N_7 (io), 12 IO_L21P_7 (io), 13 IO_L21N_7 (io), 15 IO_L22P_7 (io), 16 IO_L22N_7 (io), 18 IO_L23P_7 (io), 19 IO_L23N_7 (io), 20 IO_L24P_7 (io), 21 IO_L24N_7 (io), 22 IO_L39P_7 (io), 24 IO_L39N_7 (io), 26 IO_L40P_7 (io), 27 IO_L40N_7/VREF_7 (io), 28 IO_L40P_6/VREF_6 (io), 29 IO_L40N_6 (io), 31 IO_L39P_6 (io), 33 IO_L39N_6 (io), 34 IO_L24P_6 (io), 35 IO_L24N_6/VREF_6 (io), 36 IO_L23P_6 (io), 37 IO_L23N_6 (io), 39 IO_L22P_6 (io), 40 IO_L22N_6 (io), 42 IO_L21P_6 (io), 43 IO_L21N_6 (io), 44 IO_L20P_6 (io), 45 IO_L20N_6 (io), 46 IO_L19P_6 (io), 48 IO_L19N_6 (io), 50 IO/VREF_6 (io), 51 IO_L01P_6/VRN_6 (io), 52 IO_L01N_6/VRP_6 (io), 57 IO_L01P_5/CS_B (io), 58 IO_L01N_5/RDWR_B (io), 61 IO_L10P_5/VRN_5 (io), 62 IO_L10N_5/VRP_5 (io), 63 IO (io), 64 IO_L27P_5 (io), 65 IO_L27N_5/VREF_5 (io), 67 IO_L28P_5/D7 (io), 68 IO_L28N_5/D6 (io), 71 IO (io), 72 IO_L31P_5/D5 (io), 74 IO_L31N_5/D4 (io), 76 IO_L32P_5/GCLK2 (io), 77 IO_L32N_5/GCLK3 (io), 78 IO/VREF_5 (io), 79 IO_L32P_4/GCLK0 (io), 80 IO_L32N_4/GCLK1 (io), 81 IO_L31P_4/DOUT/BUSY (io), 83 IO_L31N_4/INIT_B (io), 85 IO/VREF_4 (io), 86 IO_L30P_4/D3 (io), 87 IO_L30N_4/D2 (io), 90 IO_L27P_4/D1 (io), 92 IO_L27N_4/DIN/D0 (io), 93 IO (io), 94 IO_L25P_4 (io), 95 IO_L25N_4 (io), 96 IO/VREF_4 (io), 97 IO (io), 100 IO_L01P_4/VRN_4 (io), 101 IO_L01N_4/VRP_4 (io), 102 IO/VREF_4 (io), 106 IO_L01P_3/VRN_3 (io), 107 IO_L01N_3/VRP_3 (io), 108 IO_L17P_3/VREF_3 (io), 109 IO_L17N_3 (io), 111 IO_L19P_3 (io), 113 IO_L19N_3 (io), 114 IO_L20P_3 (io), 115 IO_L20N_3 (io), 116 IO_L21P_3 (io), 117 IO_L21N_3 (io), 119 IO_L22P_3 (io), 120 IO_L22N_3 (io), 122 IO_L23P_3/VREF_3 (io), 123 IO_L23N_3 (io), 124 IO_L24P_3 (io), 125 IO_L24N_3 (io), 126 IO_L39P_3 (io), 128 IO_L39N_3 (io), 130 IO_L40P_3 (io), 131 IO_L40N_3/VREF_3 (io), 132 IO_L40P_2/VREF_2 (io), 133 IO_L40N_2 (io), 135 IO_L39P_2 (io), 137 IO_L39N_2 (io), 138 IO_L24P_2 (io), 139 IO_L24N_2 (io), 140 IO_L23P_2 (io), 141 IO_L23N_2/VREF_2 (io), 143 IO_L22P_2 (io), 144 IO_L22N_2 (io), 146 IO_L21P_2 (io), 147 IO_L21N_2 (io), 148 IO_L20P_2 (io), 149 IO_L20N_2 (io), 150 IO_L19P_2 (io), 152 IO_L19N_2 (io), 154 IO/VREF_2 (io), 155 IO_L01P_2/VRN_2 (io), 156 IO_L01N_2/VRP_2 (io), 161 IO_L01P_1/VRN_1 (io), 162 IO_L01N_1/VRP_1 (io), 165 IO_L10P_1 (io), 166 IO_L10N_1/VREF_1 (io), 167 IO (io), 168 IO_L27P_1 (io), 169 IO_L27N_1 (io), 171 IO_L28P_1 (io), 172 IO_L28N_1 (io), 175 IO (io), 176 IO_L31P_1 (io), 178 IO_L31N_1/VREF_1 (io), 180 IO_L32P_1/GCLK4 (io), 181 IO_L32N_1/GCLK5 (io), 182 IO (io), 183 IO_L32P_0/GCLK6 (io), 184 IO_L32N_0/GCLK7 (io), 185 IO_L31P_0/VREF_0 (io), 187 IO_L31N_0 (io), 189 IO (io), 190 IO_L30P_0 (io), 191 IO_L30N_0 (io), 194 IO_L27P_0 (io), 196 IO_L27N_0 (io), 197 IO (io), 198 IO_L25P_0 (io), 199 IO_L25N_0 (io), 200 IO/VREF_0 (io), 203 IO_L01P_0/VRN_0 (io), 204 IO_L01N_0/VRP_0 (io), 205 IO/VREF_0 (io)
part B pins: 1 GND (power), 6 VCCO_7 (power), 8 GND (power), 14 GND (power), 17 VCCAUX (power), 23 VCCO_7 (power), 25 GND (power), 30 GND (power), 32 VCCO_6 (power), 38 VCCAUX (power), 41 GND (power), 47 GND (power), 49 VCCO_6 (power), 53 GND (power), 54 M1 (in), 55 M0 (in), 56 M2 (in), 59 GND (power), 60 VCCO_5 (power), 66 GND (power), 69 VCCAUX (power), 70 VCCINT (power), 73 VCCO_5 (power), 75 GND (power), 82 GND (power), 84 VCCO_4 (power), 88 VCCINT (power), 89 VCCAUX (power), 91 GND (power), 98 VCCO_4 (power), 99 GND (power), 103 DONE (out), 104 CCLK (in), 105 GND (power), 110 VCCO_3 (power), 112 GND (power), 118 GND (power), 121 VCCAUX (power), 127 VCCO_3 (power), 129 GND (power), 134 GND (power), 136 VCCO_2 (power), 142 VCCAUX (power), 145 GND (power), 151 GND (power), 153 VCCO_2 (power), 157 GND (power), 158 TDO (io), 159 TCK (io), 160 TMS (io), 163 GND (power), 164 VCCO_1 (power), 170 GND (power), 173 VCCAUX (power), 174 VCCINT (power), 177 VCCO_1 (power), 179 GND (power), 186 GND (power), 188 VCCO_0 (power), 192 VCCINT (power), 193 VCCAUX (power), 195 GND (power), 201 VCCO_0 (power), 202 GND (power), 206 HSWAP_EN (in), 207 PROG_B (in), 208 TDI (io)

## XC17S00A
designator U?
Xilinx OTP configuration serial prom
footprint DIP-8
pins: 1 DATA (out), 2 CLK (in), 3 OE/~{RESET} (in), 4 ~{CE} (in), 5 GND (power), 6 NC, 7 VCC (power), 8 VCC (power)

## XCF01S
designator U?
Xilinx Platform Flash; Vendor: Xilinx
footprint TSSO6x6-G20/X.3
pins: 1 DO (out), 3 CLK (in), 4 TDI (in), 5 TMS (out), 6 TCLK (out), 7 ~{CF} (out), 8 OE/~{RESET} (in), 10 ~{CE} (in), 11 GND (power), 13 ~{CEO} (out), 17 TDO (in), 18 VCCINT (power), 19 VCCO (power), 20 VCCJ (power)

## XCF02S
designator U?
Xilinx Platform Flash
footprint TSSO6x6-G20/X.3
pins: 1 DO (out), 3 CLK (in), 4 TDI (in), 5 TMS (out), 6 TCLK (out), 7 ~{CF} (out), 8 OE/~{RESET} (in), 10 ~{CE} (in), 11 GND (power), 13 ~{CEO} (out), 17 TDO (in), 18 VCCINT (power), 19 VCCO (power), 20 VCCJ (power)

## XLR
designator J?, comment XLR connector
XLR balanced connector, standard
footprint NC3FAH-0 (Neutrik 3 pole female XLR receptacle, plastic housing, horizontal PCB mount.)
footprint NC3MAH-0 (Neutrik 3 pole male XLR receptacle, plastic housing, horizontal PCB mount.)
pins: 1 SHLD, 2 S+, 3 S-